# Altium footprint library L391.PcbLib: 1 footprints
Each footprint in its own frame and in the unit in brackets; x right, y up, seen from the top. Pads: shape width x height; smd on the part's side, far side on the other; paste and mask are expansions set on the pad; w line width, h text height; cw(c..) or ccw(c..) is an arc to the next point about the centre after c.
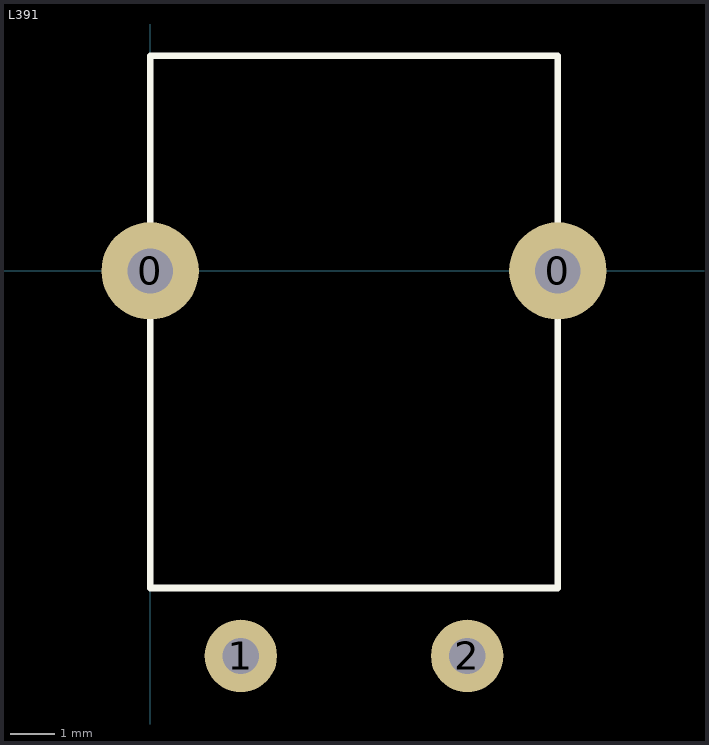
[diagram p0: the footprint, top view; thin cyan lines are the x and y axes]

## L391 [mil]
pads (4):
  round 86 hole 40: 0(0,0) 0(360,0)
  round 64 hole 32: 1(80,-340) 2(280,-340)
Top Overlay:
  lines w6: 0,-280 360,-280 360,190 0,190 0,-280
3D body: height 354.33, standoff 0, extent 0,-281.22 354.33,191.22